# Altium footprint library SchottkyDiode_MBR130T1G_SOD-123.PcbLib: 1 footprints
Each footprint in its own frame and in the unit in brackets; x right, y up, seen from the top. Pads: shape width x height; smd on the part's side, far side on the other; paste and mask are expansions set on the pad; w line width, h text height; cw(c..) or ccw(c..) is an arc to the next point about the centre after c.
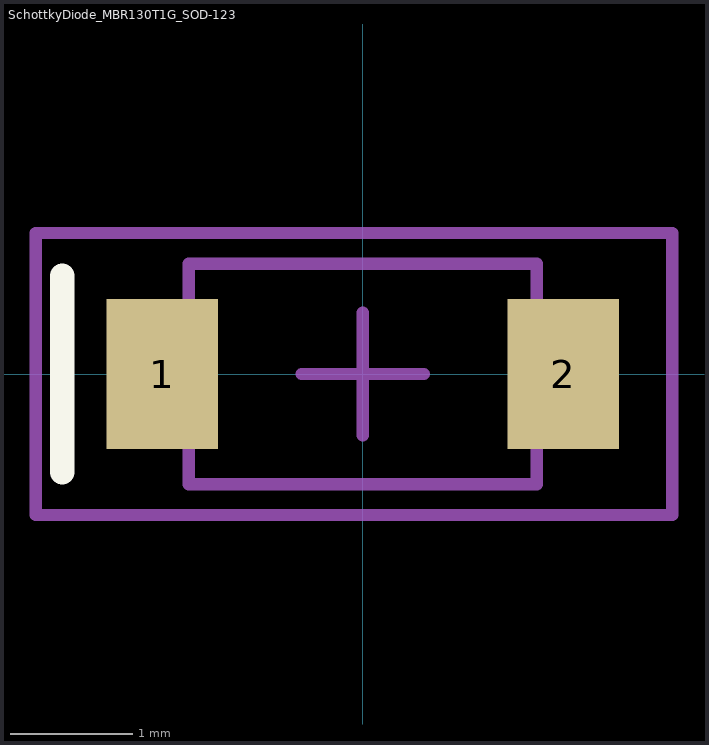
[diagram p0: the footprint, top view; thin cyan lines are the x and y axes]

## SchottkyDiode_MBR130T1G_SOD-123 [mm]
height 1.35
pads (2):
  rect 0.91x1.22 smd: 1(-1.635,0) 2(1.635,0)
Top Overlay:
  lines w0.2: -2.453,-0.8 -2.453,0.8
Mechanical 13:
  lines w0.1: -1.42,-0.9 1.42,-0.9 1.42,0.9 -1.42,0.9 -1.42,-0.9
Mechanical 15:
  lines w0.1: -0.5,0 0.5,0 ; 0,-0.5 0,0.5 ; -2.667,-1.15 2.525,-1.15 2.525,1.15 -2.667,1.15 -2.667,-1.15
3D body: height 1.35, standoff 0, extent -1.42,-0.9 1.42,0.9